# Altium footprint library THB7128模板.PcbLib: 12 footprints
Each footprint in its own frame and in the unit in brackets; x right, y up, seen from the top. Pads: shape width x height; smd on the part's side, far side on the other; paste and mask are expansions set on the pad; w line width, h text height; cw(c..) or ccw(c..) is an arc to the next point about the centre after c.
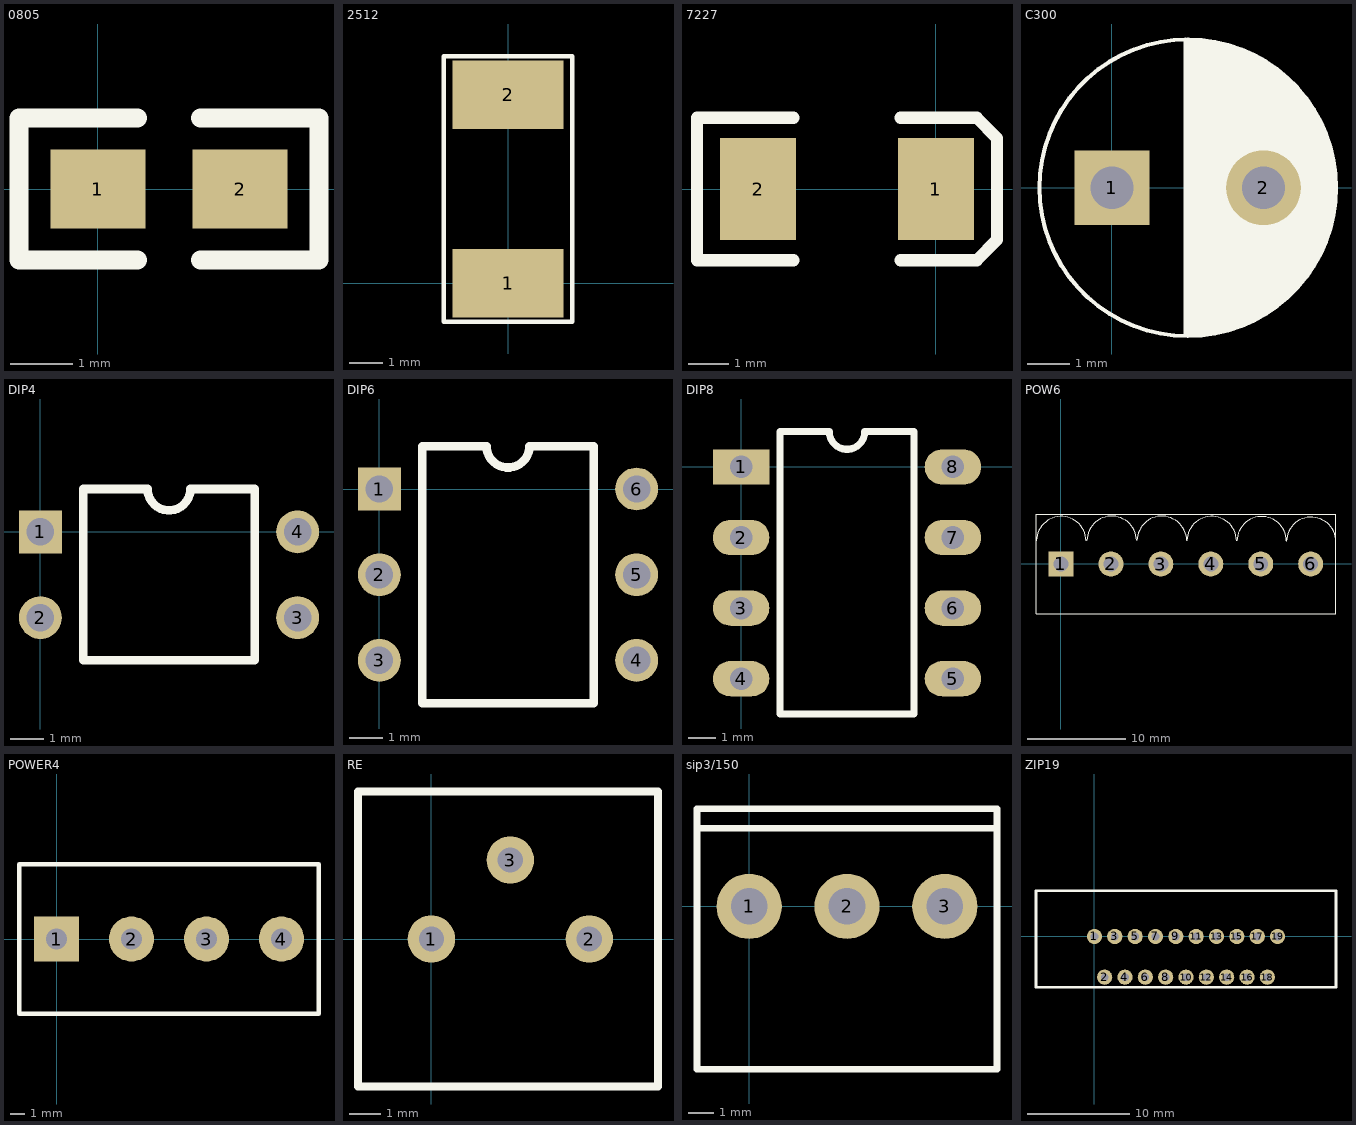
[diagram p0: the footprints below, top view; thin cyan lines are the x and y axes]

## 0805 [mil]
pads (2):
  rect 60x50 smd: 1(0,0) 2(90,0)
Top Overlay:
  lines w12: 25,-45 -50,-45 -50,45 25,45 ; 65,-45 140,-45 140,45 65,45

## 2512 [mil]
pads (2):
  rect 130x80 smd: 1(0,0) 2(0,220)
Top Overlay:
  lines w5: -75,-45 -75,265 75,265 75,-45 -75,-45

## 7227 [mil]
pads (2):
  rect 75x100 smd: 1(0,0) 2(-175,0)
Top Overlay:
  lines w12: -140,-70 -235,-70 -235,70 -140,70 ; -35,-70 40,-70 60,-50 60,50 40,70 -35,70

## C300 [mil]
pads (2):
  rect 70x70 hole 40: 1(0,0)
  round 70 hole 40: 2(141.73,0)
Top Overlay:
  circle w3.94: c70.87,0 r138.69
  lines w3.94: 68.8,-134.34 100.34,-134.34 ; 68.8,-130.4 115.09,-130.4 ; 68.8,-126.46 125.6,-126.46 ; 68.8,-122.53 134.09,-122.53 ; 68.8,-118.59 141.31,-118.59 ; 68.8,-114.65 147.64,-114.65 ; 68.8,-110.72 153.28,-110.72 ; 68.8,-106.78 158.37,-106.78 ; 68.8,-102.84 163,-102.84 ; 68.8,-98.9 167.24,-98.9 ; 68.8,-94.97 171.14,-94.97 ; 68.8,-91.03 174.74,-91.03 ; 68.8,-87.09 178.07,-87.09 ; 68.8,-83.16 181.16,-83.16 ; 68.8,-79.22 184.02,-79.22 ; 68.8,-75.28 186.67,-75.28 ; 68.8,-71.35 189.13,-71.35 ; 68.8,-67.41 191.41,-67.41 ; 68.8,-63.47 193.52,-63.47 ; 68.8,-59.53 195.46,-59.53 ; 68.8,-55.6 197.25,-55.6 ; 68.8,-51.66 198.9,-51.66 ; 68.8,-47.72 200.4,-47.72 ; 68.8,-43.79 201.76,-43.79 ; 68.8,-39.85 202.99,-39.85 ; 68.8,-35.91 204.09,-35.91 ; 68.8,-31.98 205.06,-31.98 ; 68.8,-28.04 205.91,-28.04 ; 68.8,-24.1 206.64,-24.1 ; 68.8,-20.16 207.25,-20.16 ; 68.8,-16.23 207.74,-16.23 ; 68.8,-12.29 208.12,-12.29 ; 68.8,-8.35 208.38,-8.35 ; 68.8,-4.42 208.52,-4.42 ; 68.8,-0.48 208.56,-0.48 ; 68.8,3.46 208.48,3.46 ; 68.8,7.39 208.29,7.39 ; 68.8,11.33 207.98,11.33 ; 68.8,15.27 207.57,15.27 ; 68.8,19.21 207.04,19.21 ; 68.8,23.14 206.4,23.14 ; 68.8,27.08 205.64,27.08 ; 68.8,31.02 204.76,31.02 ; 68.8,34.95 203.76,34.95 ; 68.8,38.89 202.64,38.89 ; 68.8,42.83 201.39,42.83 ; 68.8,46.76 200.02,46.76 ; 68.8,50.7 198.51,50.7 ; 68.8,54.64 196.86,54.64 ; 68.8,58.58 195.06,58.58 ; 68.8,62.51 193.12,62.51 ; 68.8,66.45 191.01,66.45 ; 68.8,70.39 188.75,70.39 ; 68.8,74.32 186.3,74.32 ; 68.8,78.26 183.67,78.26 ; 68.8,82.2 180.84,82.2 ; 68.8,86.13 177.79,86.13 ; 68.8,90.07 174.51,90.07 ; 68.8,94.01 170.98,94.01 ; 68.8,97.95 167.16,97.95 ; 68.8,101.88 163.02,101.88 ; 68.8,105.82 158.51,105.82 ; 68.8,109.76 153.59,109.76 ; 68.8,113.69 148.17,113.69 ; 68.8,117.63 142.13,117.63 ; 68.8,121.57 135.32,121.57 ; 68.8,125.5 127.47,125.5 ; 68.8,129.44 118.07,129.44 ; 68.8,133.38 105.98,133.38 ; 68.8,137.32 86.31,137.32 ; 71.66,-137.17 71.66,138.39 ; 75.59,-137.14 75.59,138.25 ; 79.53,-137 79.53,138 ; 83.47,-136.75 83.47,137.64 ; 87.4,-136.38 87.4,137.17 ; 91.34,-135.89 91.34,136.59 ; 95.28,-135.29 95.28,135.88 ; 99.21,-134.57 99.21,135.07 ; 103.15,-133.72 103.15,134.13 ; 107.09,-132.76 107.09,133.07 ; 111.03,-131.66 111.03,131.88 ; 114.96,-130.44 114.96,130.57 ; 118.9,-129.09 118.9,129.13 ; 122.84,-127.6 122.84,127.55 ; 126.77,-125.96 126.77,125.82 ; 130.71,-124.18 130.71,123.95 ; 134.65,-122.24 134.65,121.93 ; 138.58,-120.14 138.58,119.75 ; 142.52,-117.87 142.52,117.39 ; 146.46,-115.42 146.46,114.85 ; 150.4,-112.78 150.4,112.12 ; 154.33,-109.93 154.33,109.18 ; 158.27,-106.86 158.27,106.02 ; 162.21,-103.54 162.21,102.62 ; 166.14,-99.95 166.14,98.94 ; 170.08,-96.07 170.08,94.96 ; 174.02,-91.85 174.02,90.64 ; 177.95,-87.24 177.95,85.94 ; 181.89,-82.18 181.89,80.77 ; 185.83,-76.57 185.83,75.05 ; 189.77,-70.28 189.77,68.65 ; 193.7,-63.11 193.7,61.36 ; 197.64,-54.71 197.64,52.81 ; 201.58,-44.34 201.58,42.28 ; 205.51,-29.95 205.51,27.67 ; 68.8,-137.17 72.73,-137.17 ccw(c72.73,-1.35) 208.56,-1.35 ccw(c68.8,-1.35) 68.8,138.42 68.8,-137.17

## DIP4 [mil]
pads (4):
  rect 50x50 hole 32: 1(0,0)
  round 50 hole 32: 2(0,-100) 3(300,-100) 4(300,0)
Top Overlay:
  lines w10: 50,-150 50,50 125,50 ccw(c150,50) 175,50 250,50 250,-150 50,-150

## DIP6 [mil]
pads (6):
  rect 50x50 hole 32: 1(0,0)
  round 50 hole 32: 2(0,-100) 3(0,-200) 4(300,-200) 5(300,-100) 6(300,0)
Top Overlay:
  lines w10: 50,-250 250,-250 250,50 175,50 cw(c150,50) 125,50 50,50 50,-250

## DIP8 [mil]
pads (8):
  rect 80x50 hole 32: 1(0,0)
  oval 80x50 hole 32: 2(0,-100) 3(0,-200) 4(0,-300) 5(300,-300) 6(300,-200) 7(300,-100) 8(300,0)
Top Overlay:
  lines w10: 55,-350 245,-350 245,50 175,50 cw(c150,50) 125,50 55,50 55,-350

## POW6 [mil]
pads (6):
  rect 100x100 hole 60: 1(0,0)
  round 100 hole 60: 2(200,0) 3(400,0) 4(600,0) 5(800,0) 6(1000,0)
Top Overlay:
  lines w3.94: -98.14,94.01 cw(c1.38,91.06) 100.92,93.2 ; 103.63,94.99 cw(c203.15,92.05) 302.69,94.18 ; 304.42,94.99 cw(c403.94,92.05) 503.48,94.18 ; 504.22,94.01 cw(c603.74,91.06) 703.28,93.2 ; 704.02,93.02 cw(c803.55,90.08) 903.09,92.22 ; 902.24,90.88 cw(c1001.77,87.94) 1101.31,90.08 ; -100,-200 -100,200 1100,200 1100,-200 -100,-200

## POWER4 [mil]
pads (4):
  rect 120x120 hole 56: 1(-0.21,0)
  round 120 hole 56: 2(199.78,0) 3(399.79,0) 4(599.78,0)
Top Overlay:
  lines w12: -100.22,-200 699.78,-200 699.78,200 -100.22,200 -100.22,-200

## RE [mil]
pads (3):
  round 60 hole 32: 1(0,0) 2(200,0) 3(100,100)
Top Overlay:
  lines w10: -92.95,-187.01 287.01,-187.01 287.01,187.01 -92.95,187.01 -92.95,-187.01

## sip3/150 [mil]
pads (3):
  round 100 hole 56: 1(0,0) 2(150,0) 3(300,0)
Top Overlay:
  lines w10: -80,120 380,120 ; 0,150 380,150 380,-250 -80,-250 -80,150 25,150

## ZIP19 [mm]
pads (19):
  round 1.5 hole 0.75: 1(0,0) 2(1,-4) 3(2,0) 4(3,-4) 5(4,0) 6(5,-4) 7(6,0) 8(7,-4) 9(8,0) 10(9,-4) 11(10,0) 12(11,-4) 13(12,0) 14(13,-4) 15(14,0) 16(15,-4) 17(16,0) 18(17,-4) 19(18,0)
Top Overlay:
  lines w0.254: -5.75,-5 23.75,-5 23.75,4.5 -5.75,4.5 -5.75,-5